# Altium integrated library IRL530.IntLib: 1 symbol
Pins are listed as number, name and electrical type; pins without a type are passive.

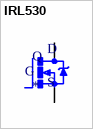
[diagram p0: symbol IRL530]

## IRL530
designator Q
N-Channel 100V 15A (Tc) 88W (Tc) Through Hole TO-220AB; MF: Vishay / Siliconix; MP: IRL530; Price: None; Value: *; Package: TO-220-3 Vishay / Siliconix; SnapEDA_Link: https://www.snapeda.com/parts/IRL530/Vishay%20Siliconix/view-part/4705327/?ref=snap; Availability: Unavailable
footprint TO220V
pins: 1 G, 2 D, 3 S